# Altium footprint library PASSIVE_SMD.PCBLIB: 249 footprints (part 10 of 16)
Each footprint in its own frame and in the unit in brackets; x right, y up, seen from the top. Pads: shape width x height; smd on the part's side, far side on the other; paste and mask are expansions set on the pad; w line width, h text height; cw(c..) or ccw(c..) is an arc to the next point about the centre after c.
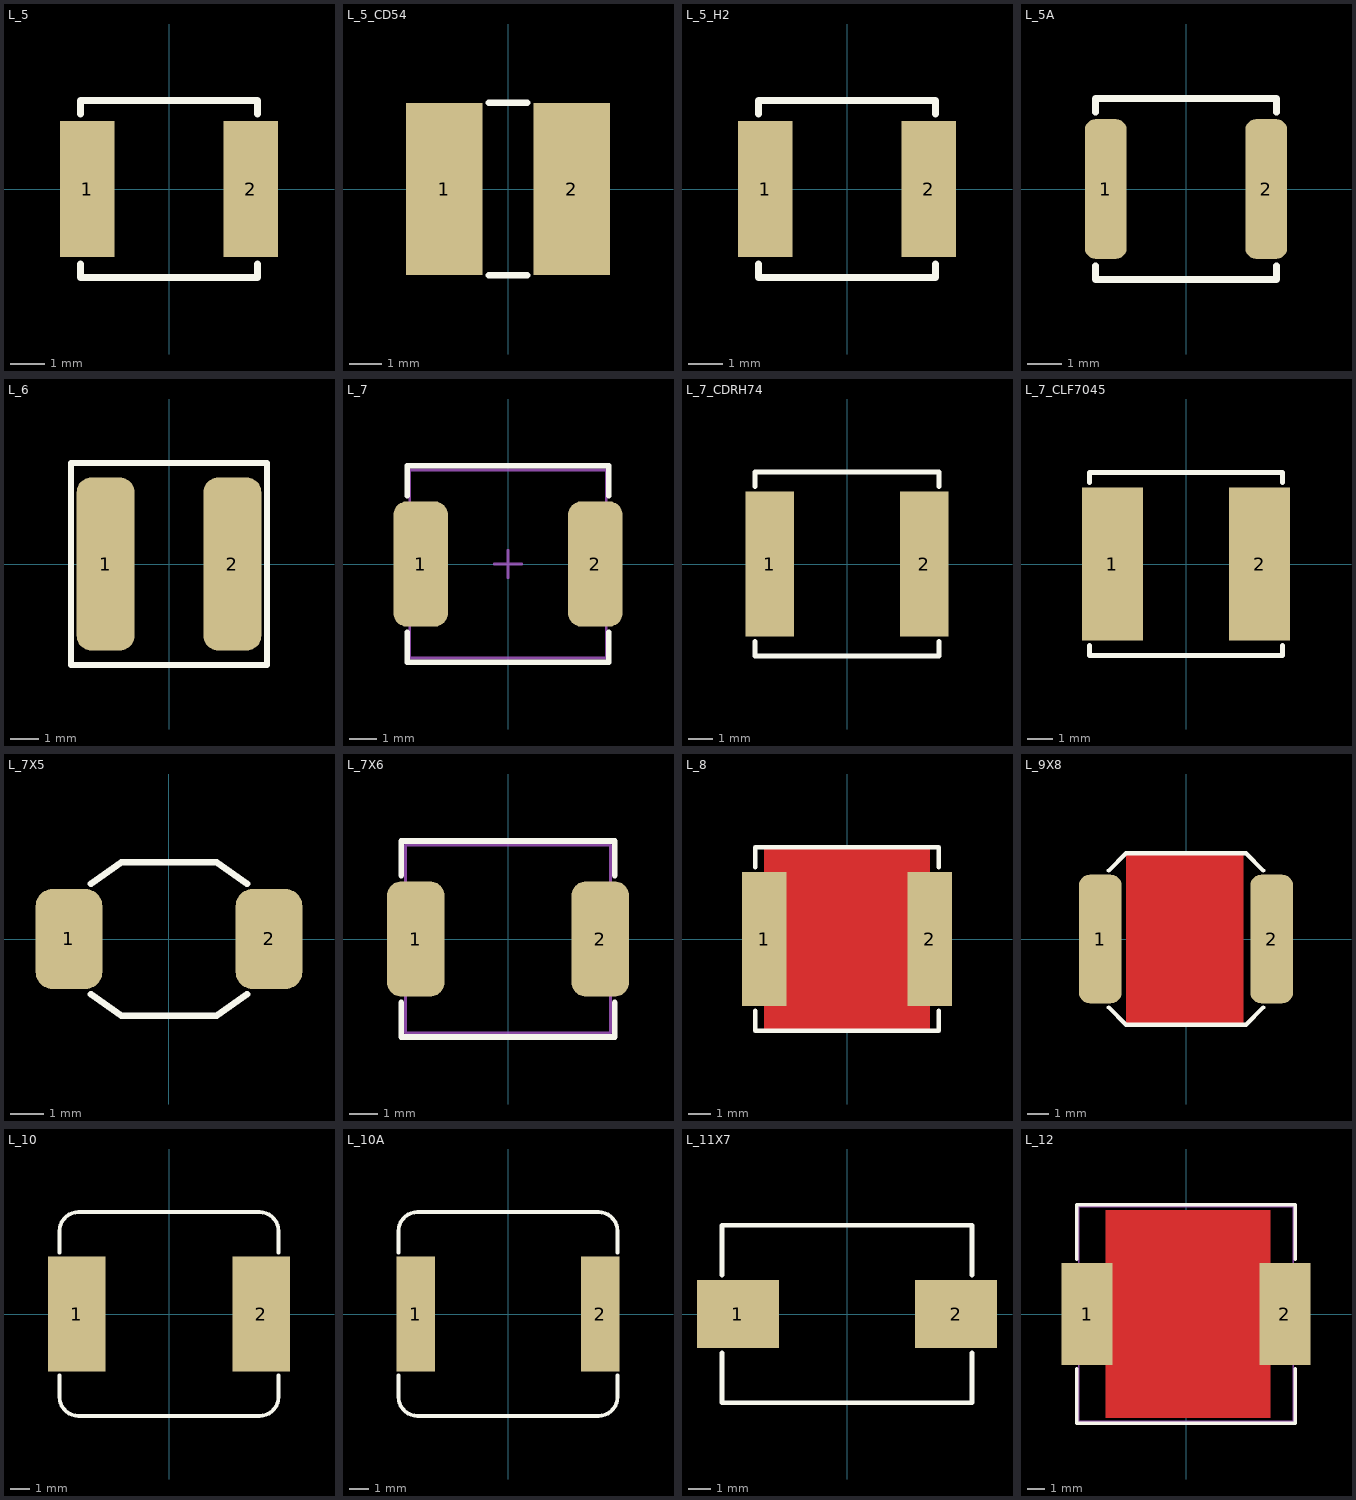
[diagram p9: the footprints below, top view; thin cyan lines are the x and y axes]

## L_5 [mm] "INDUCTOR, 5.0X5.0mm"
pads (2):
  rect 1.6x4 smd paste-0.1: 1(-2.4,0) 2(2.4,0)
Top Overlay:
  lines w0.2: -2.6,-2.2 -2.6,-2.6 2.6,-2.6 2.6,-2.2 ; -2.6,2.2 -2.6,2.6 2.6,2.6 2.6,2.2
3D body: height 3, standoff 0, extent -2.5,-2.5 2.5,2.5

## L_5_CD54 [mm] "INDUCTOR, 5.2x5.8x4.5mm"
pads (2):
  rect 2.4x5.4 smd paste-5: 1(-2,0) 2(2,0)
Top Overlay:
  lines w0.2: -0.6,-2.7 0.6,-2.7 ; -0.6,2.7 0.6,2.7
Top Paste:
  region: 1.8,-1.2 1,-1.2 1,-0.4 1.8,-0.4
  region: 2.2,-1.2 3,-1.2 3,-0.4 2.2,-0.4
  region: 1.8,-2.4 1,-2.4 1,-1.6 1.8,-1.6
  region: 2.2,-2.4 3,-2.4 3,-1.6 2.2,-1.6
  region: 1.8,1.2 1,1.2 1,0.4 1.8,0.4
  region: 2.2,1.2 3,1.2 3,0.4 2.2,0.4
  region: 1.8,2.4 1,2.4 1,1.6 1.8,1.6
  region: 2.2,2.4 3,2.4 3,1.6 2.2,1.6
  region: -1.8,-1.2 -1,-1.2 -1,-0.4 -1.8,-0.4
  region: -2.2,-1.2 -3,-1.2 -3,-0.4 -2.2,-0.4
  region: -1.8,-2.4 -1,-2.4 -1,-1.6 -1.8,-1.6
  region: -2.2,-2.4 -3,-2.4 -3,-1.6 -2.2,-1.6
  region: -1.8,1.2 -1,1.2 -1,0.4 -1.8,0.4
  region: -2.2,1.2 -3,1.2 -3,0.4 -2.2,0.4
  region: -1.8,2.4 -1,2.4 -1,1.6 -1.8,1.6
  region: -2.2,2.4 -3,2.4 -3,1.6 -2.2,1.6
3D body "User Library-CD54.step": height 4.5, standoff 0, extent -3.016,-2.6 2.9,2.6

## L_5_H2 [mm] "INDUCTOR, 5.0X5.0X2mm"
pads (2):
  rect 1.6x4 smd paste-0.1: 1(-2.4,0) 2(2.4,0)
Top Overlay:
  lines w0.2: -2.6,-2.2 -2.6,-2.6 2.6,-2.6 2.6,-2.2 ; -2.6,2.2 -2.6,2.6 2.6,2.6 2.6,2.2
3D body: height 2, standoff 0, extent -2.5,-2.5 2.5,2.5

## L_5A [mm] "INDUCTOR, 5.0X5.0mm"
pads (2):
  rrect50% 1.2x4 smd paste-0.1 mask+0.075: 1(-2.3,0) 2(2.3,0)
Top Overlay:
  lines w0.2: -2.6,-2.2 -2.6,-2.6 2.6,-2.6 2.6,-2.2 ; -2.6,2.2 -2.6,2.6 2.6,2.6 2.6,2.2
3D body: height 3, standoff 0, extent -2.5,-2.5 2.5,2.5

## L_6 [mm] "INDUCTOR, 6.0X6.0mm, SRP6030, XAL6030"
height 3
pads (2):
  rrect50% 2x6 smd paste-0.2: 1(-2.2,0) 2(2.2,0)
Top Overlay:
  lines w0.2: -3.4,-3.5 3.4,-3.5 3.4,3.5 -3.4,3.5 -3.4,-3.5
3D body "Coilcraft-XAL6030.step": height 3.1, standoff 0, extent -3.28,-3.38 3.28,3.38

## L_7 [mm] "INDUCTOR, 7.2X6.9mm, 7.1X6.5mm, SPM6530"
height 4.5
pads (2):
  rrect50% 2x4.6 smd paste-1 mask+0.1: 1(-3.2,0) 2(3.2,0)
Top Overlay:
  lines w0.2: -3.7,-2.5 -3.7,-3.6 3.7,-3.6 3.7,-2.5 ; -3.7,2.5 -3.7,3.6 3.7,3.6 3.7,2.5
Top Paste:
  region: -2.4,-0.6 -2.4,0.6 -4,0.6 -4,-0.6
  region: -2.4,1 -2.4,2.2 -4,2.2 -4,1
  region: -4,-1 -4,-2.2 -2.4,-2.2 -2.4,-1
  region: 4,-0.6 4,0.6 2.4,0.6 2.4,-0.6
  region: 4,1 4,2.2 2.4,2.2 2.4,1
  region: 2.4,-1 2.4,-2.2 4,-2.2 4,-1
Mechanical 13:
  lines w0.1: -3.6,-3.45 -3.6,3.45 3.6,3.45 3.6,-3.45 -3.6,-3.45
Mechanical 15:
  lines w0.1: -0.5,0 0.5,0 ; 0,-0.5 0,0.5
3D body "User Library-FP3-Cooper.step": height 3, standoff 0, extent -3.625,-3.35 3.625,3.35

## L_7_CDRH74 [mm] "INDUCTOR, 7.3x7.3x4.5mm, CDRH74, 7.2x6.9mm, 7.1x6.5mm"
height 4.5
pads (2):
  rect 2x6 smd paste-3: 1(-3.2,0) 2(3.2,0)
Top Overlay:
  lines w0.2: -3.8,-3.2 -3.8,-3.8 3.8,-3.8 3.8,-3.2 ; -3.8,3.2 -3.8,3.8 3.8,3.8 3.8,3.2
Top Paste:
  region: 3.9,2.8 2.5,2.8 2.5,0.2 3.9,0.2
  region: 3.9,-0.2 2.5,-0.2 2.5,-2.8 3.9,-2.8
  rectangle: -3.9,-2.8 -2.5,-0.2
  rectangle: -3.9,0.2 -2.5,2.8
3D body "User Library-CDRH74.step": height 4.15, standoff -0.02, extent -3.7,-3.7 3.7,3.7

## L_7_CLF7045 [mm] "INDUCTOR, 7.2x6.9x4.5mm, CLF7045"
height 4.5
pads (2):
  rect 2.4x6 smd paste-3: 1(-2.9,0) 2(2.9,0)
Top Overlay:
  lines w0.2: -3.8,-3.2 -3.8,-3.6 3.8,-3.6 3.8,-3.2 ; -3.8,3.2 -3.8,3.6 3.8,3.6 3.8,3.2
Top Paste:
  region: 3.9,2.8 1.9,2.8 1.9,0.2 3.9,0.2
  region: 3.9,-0.2 1.9,-0.2 1.9,-2.8 3.9,-2.8
  rectangle: -3.9,0.2 -1.9,2.8
  rectangle: -3.9,-2.8 -1.9,-0.2
3D body "User Library-CLF7045NI.step": height 4.8, standoff 0, extent -3.7,-3.5 3.7,3.5

## L_7X5 [mm] "INDUCTOR, 6.6X4.4X3mm, SDE6603"
pads (2):
  rrect50% 2x3 smd paste-0.2: 1(-3,0) 2(3,0)
Top Overlay:
  lines w0.2: -2.342,-1.66 -1.429,-2.3 1.429,-2.3 2.342,-1.66 ; -2.342,1.66 -1.429,2.3 1.429,2.3 2.342,1.66
3D body "User Library-SDE6603_ws.STEP": height 2.91, standoff 0, extent -3.3,-2.225 3.3,2.225

## L_7X6 [mm] "Precision Wire Wound Inductor, 2-Leads, Body 7.5x6.5x3mm, IPC Medium Density"
height 3
pads (2):
  rrect50% 2x4 smd paste-0.2: 1(-3.2,0) 2(3.2,0)
Top Overlay:
  lines w0.2: -3.7,-2.2 -3.7,-3.4 3.7,-3.4 3.7,-2.2 ; -3.7,2.2 -3.7,3.4 3.7,3.4 3.7,2.2
Mechanical 13:
  lines w0.1: -3.55,-3.25 -3.55,3.25 3.55,3.25 3.55,-3.25 -3.55,-3.25
3D body: height 3, standoff 0, extent -3.55,-3.25 3.55,3.25

## L_8 [mm] "INDUCTOR, 7.5X7.5mm, 8x8, DR74"
height 4.5
pads (2):
  rect 2x6 smd paste-4: 1(-3.7,0) 2(3.7,0)
Top Layer:
  pour cut-out: -3.7,4.1 -3.7,-4.1 3.7,-4.1 3.7,4.1
Top Overlay:
  lines w0.2: -4.1,-3.2 -4.1,-4.1 4.1,-4.1 4.1,-3.2 ; -4.1,3.2 -4.1,4.1 4.1,4.1 4.1,3.2
Top Paste:
  rectangle: -4.4,0.2 -3,2.8
  rectangle: -4.4,-2.8 -3,-0.2
  region: 4.4,-0.2 3,-0.2 3,-2.8 4.4,-2.8
  region: 4.4,2.8 3,2.8 3,0.2 4.4,0.2
3D body "Cooper Bussman DR73 Series Inductor.STEP": height 3.55, standoff 0, extent -3.8,-3.8 3.8,3.8

## L_9X8 [mm] "INDUCTOR, 9X7.7X1.6mm 2700 SERIES MURATA"
pads (2):
  rrect50% 2x6 smd paste-4: 1(-4,0) 2(4,0)
Top Layer:
  pour cut-out: -2.794,4.064 2.667,4.064 2.667,-4.064 -2.794,-4.064
Top Overlay:
  lines w0.2: -3.6,-3.2 -2.8,-4 2.8,-4 3.6,-3.2 ; -3.6,3.2 -2.8,4 2.8,4 3.6,3.2
Top Paste:
  rectangle: -4.7,0.2 -3.3,2.7
  rectangle: -4.7,-2.7 -3.3,-0.2
  region: 4.7,-0.2 3.3,-0.2 3.3,-2.7 4.7,-2.7
  region: 4.7,2.7 3.3,2.7 3.3,0.2 4.7,0.2
3D body: height 1.6, standoff 0, extent -3.7,-3.9 3.7,3.9
3D body: height 1.6, standoff 0, extent -4.5,-2.9 -3.7,2.9
3D body: height 1.6, standoff 0, extent 3.7,-2.9 4.5,2.9

## L_10 [mm] "INDUCTOR, 10.5X11.5mm, CDRH104R, MSS1038 (coilcraft)"
height 4
pads (2):
  rect 3x6 smd paste-4: 1(-4.8,0) 2(4.8,0)
Top Overlay:
  lines w0.2: -5.7,-3.2 -5.7,-4.3 ccw(c-4.7,-4.3) -4.7,-5.3 4.7,-5.3 ccw(c4.7,-4.3) 5.7,-4.3 5.7,-3.2 ; -5.7,3.2 -5.7,4.3 cw(c-4.7,4.3) -4.7,5.3 4.7,5.3 cw(c4.7,4.3) 5.7,4.3 5.7,3.2
Top Paste:
  rectangle: -5.9,0.2 -3.7,2.7
  rectangle: -5.9,-2.7 -3.7,-0.2
  region: 5.9,-0.2 3.7,-0.2 3.7,-2.7 5.9,-2.7
  region: 5.9,2.7 3.7,2.7 3.7,0.2 5.9,0.2
3D body "MPC1040LR45C.step": height 4.01, standoff 0, extent -5.75,-5.15 5.75,5.15

## L_10A [mm] "INDUCTOR, 10.5X11.5mm, CDRH104R, MSS1038 (coilcraft)"
height 4
pads (2):
  rect 2x6 smd paste-4: 1(-4.8,0) 2(4.8,0)
Top Overlay:
  lines w0.2: -5.7,-3.2 -5.7,-4.3 ccw(c-4.7,-4.3) -4.7,-5.3 4.7,-5.3 ccw(c4.7,-4.3) 5.7,-4.3 5.7,-3.2 ; -5.7,3.2 -5.7,4.3 cw(c-4.7,4.3) -4.7,5.3 4.7,5.3 cw(c4.7,4.3) 5.7,4.3 5.7,3.2
Top Paste:
  region: 5.7,2.7 3.9,2.7 3.9,0.2 5.7,0.2
  region: 5.7,-0.2 3.9,-0.2 3.9,-2.7 5.7,-2.7
  rectangle: -5.7,-2.7 -3.9,-0.2
  rectangle: -5.7,0.2 -3.9,2.7
3D body "MPC1040LR45C.step": height 4.01, standoff 0, extent -5.75,-5.15 5.75,5.15

## L_11X7 [mm] "INDUCTOR, 7.5X10.8X7.2mm, SLC1175"
height 7.2
pads (2):
  rect 3.6x3 smd paste-0.3: 1(-4.8,0) 2(4.8,0)
Top Overlay:
  lines w0.2: -5.5,-1.7 -5.5,-3.9 5.5,-3.9 5.5,-1.7 ; -5.5,1.7 -5.5,3.9 5.5,3.9 5.5,1.7
3D body "Coilcraft-SLC1175.step": height 7.25, standoff 0, extent -5.6,-3.825 5.6,3.825

## L_12 [mm] "INDUCTOR, 13.5x12.5mm, DR125, CDRH127, D128C 931AS"
height 7
pads (2):
  rect 3x6 smd paste-4: 1(-5.8,0) 2(5.8,0)
Top Layer:
  pour cut-out: -4.699,6.096 4.953,6.096 4.953,-6.096 -4.699,-6.096
Top Overlay:
  lines w0.2: -6.4,-3.2 -6.4,-6.4 6.4,-6.4 6.4,-3.2 ; -6.4,3.2 -6.4,6.4 6.4,6.4 6.4,3.2
Top Paste:
  rectangle: -6.9,-2.7 -4.5,-0.2
  rectangle: -6.9,0.2 -4.5,2.7
  region: 6.9,2.7 4.5,2.7 4.5,0.2 6.9,0.2
  region: 6.9,-0.2 4.5,-0.2 4.5,-2.7 6.9,-2.7
Mechanical 13:
  lines w0.1: -6.3,-6.3 6.3,-6.3 6.3,6.3 -6.3,6.3 -6.3,-6.3
3D body "User Library-D128C.step": height 8.16, standoff 0, extent -6.158,-6.15 6.158,6.15